# Altium footprint library Zig-Zag-In-Line Package, Even Lead Number.PcbLib: 3 footprints
Each footprint in its own frame and in the unit in brackets; x right, y up, seen from the top. Pads: shape width x height; smd on the part's side, far side on the other; paste and mask are expansions set on the pad; w line width, h text height; cw(c..) or ccw(c..) is an arc to the next point about the centre after c.
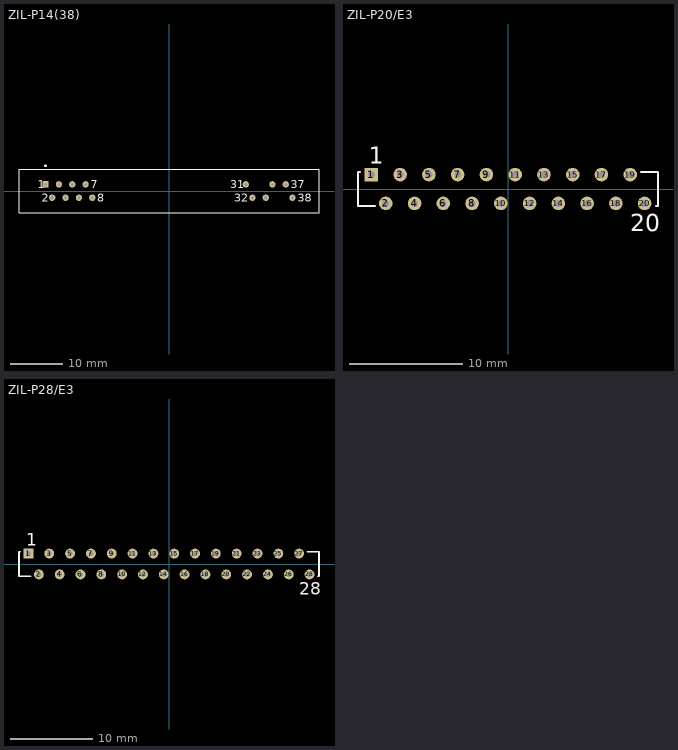
[diagram p0: the footprints below, top view; thin cyan lines are the x and y axes]

## ZIL-P14(38) [mm] "ZIP; 38 Leads (24 Absent); Row Space 2.54 mm; Pitch 1.27 mm"
pads (14):
  rect 1.2x1.2 hole 0.6: 1(-23.495,1.27)
  round 1.2 hole 0.6: 2(-22.225,-1.27) 3(-20.955,1.27) 4(-19.685,-1.27) 5(-18.415,1.27) 6(-17.145,-1.27) 7(-15.875,1.27) 8(-14.605,-1.27) 31(14.605,1.27) 32(15.875,-1.27) 34(18.415,-1.27) 35(19.685,1.27) 37(22.225,1.27) 38(23.495,-1.27)
Top Overlay:
  circle w0.25: c-23.495,4.8 r0.125
  lines w0.2: -28.55,-4.15 -28.55,4.15 28.55,4.15 28.55,-4.15 -28.55,-4.15
  text "1" at -24.97,0.52 h1.5
  text "2" at -24.2,-2.02 h1.5
  text "7" at -14.9,0.52 h1.5
  text "8" at -13.63,-2.02 h1.5
  text "31" at 11.63,0.52 h1.5
  text "32" at 12.4,-2.042 h1.5
  text "38" at 24.47,-2.02 h1.5
  text "37" at 23.2,0.52 h1.5

## ZIL-P20/E3 [mm] "ZIP; 20 Leads; Row Space 2.54 mm; Pitch 1.27 mm"
height 10.2
pads (20):
  rect 1.2x1.2 hole 0.6: 1(-12.065,1.27)
  round 1.2 hole 0.6: 2(-10.795,-1.27) 3(-9.525,1.27) 4(-8.255,-1.27) 5(-6.985,1.27) 6(-5.715,-1.27) 7(-4.445,1.27) 8(-3.175,-1.27) 9(-1.905,1.27) 10(-0.635,-1.27) 11(0.635,1.27) 12(1.905,-1.27) 13(3.175,1.27) 14(4.445,-1.27) 15(5.715,1.27) 16(6.985,-1.27) 17(8.255,1.27) 18(9.525,-1.27) 19(10.795,1.27) 20(12.065,-1.27)
Top Overlay:
  lines w0.2: -13.08,1.5 -13.25,1.5 -13.25,-1.5 -11.78,-1.5 ; 11.78,1.5 13.25,1.5 13.25,-1.5 13.08,-1.5
  text "20" at 10.777,-3.745 h1.5
  text "1" at -12.315,2.245 h1.5

## ZIL-P28/E3 [mm] "ZIP; 28 Leads; Row Space 2.54 mm; Pitch 1.27 mm"
height 10.2
pads (28):
  rect 1.2x1.2 hole 0.6: 1(-17.145,1.27)
  round 1.2 hole 0.6: 2(-15.875,-1.27) 3(-14.605,1.27) 4(-13.335,-1.27) 5(-12.065,1.27) 6(-10.795,-1.27) 7(-9.525,1.27) 8(-8.255,-1.27) 9(-6.985,1.27) 10(-5.715,-1.27) 11(-4.445,1.27) 12(-3.175,-1.27) 13(-1.905,1.27) 14(-0.635,-1.27) 15(0.635,1.27) 16(1.905,-1.27) 17(3.175,1.27) 18(4.445,-1.27) 19(5.715,1.27) 20(6.985,-1.27) 21(8.255,1.27) 22(9.525,-1.27) 23(10.795,1.27) 24(12.065,-1.27) 25(13.335,1.27) 26(14.605,-1.27) 27(15.875,1.27) 28(17.145,-1.27)
Top Overlay:
  lines w0.2: -18.16,1.5 -18.295,1.5 -18.295,-1.5 -16.86,-1.5 ; 16.86,1.5 18.295,1.5 18.295,-1.5 18.16,-1.5
  text "28" at 15.857,-3.745 h1.5
  text "1" at -17.395,2.245 h1.5